# EAGLE library part TS3A24159 (library sdf20)
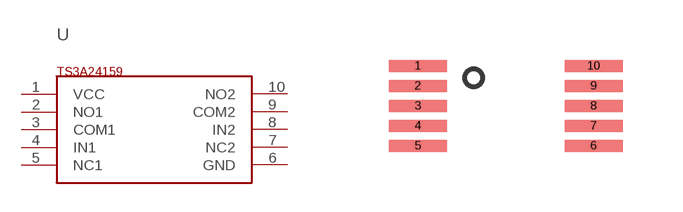
[diagram p3: symbol with the pads of 10-VSSOP; footprint 10-VSSOP]

Designator prefix -

## TS3A24159  [10-VSSOP]
1  VCC
2  NO1
3  COM1
4  IN1
5  NC1
6  GND
7  NC2
8  IN2
9  COM2
10  NO2

## Footprint 10-VSSOP (pad centres in mm)
smd 1.45 x 0.3: 1 0,2; 2 0,1.5; 3 0,1; 4 0,0.5; 5 0,0; 6 4.4,0; 7 4.4,0.5; 8 4.4,1; 9 4.4,1.5; 10 4.4,2